# EAGLE library part PINHEAD-1X8 (library GClue)
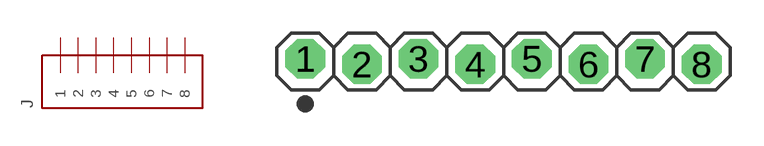
[diagram p20: symbol with the pads of 1X8-SNEAKY; footprint 1X8-SNEAKY]

Designator prefix J

## PINHEAD-1X8  [1X8-SNEAKY]
1  1
2  2
3  3
4  4
5  5
6  6
7  7
8  8

## Footprint 1X8-SNEAKY (pad centres in mm)
drill 1 pad 1.778 octagon: 1 -8.89,0.127; 2 -6.35,-0.127; 3 -3.81,0.127; 4 -1.27,-0.127; 5 1.27,0.127; 6 3.81,-0.127; 7 6.35,0.127; 8 8.89,-0.127